# EAGLE library part 6180XX29321_61800929321 (library 618015233821_Eagle_WR-DSUB_rev20a)
WR-DSUB Female PCB Connector w. Hex Screw Kind Properties Quality Class：3 as per CECC 75 301-802 Gender:Female Type:Straight Insulator Material:PBT Insulator Flammability Rating:UL94 V-0 Color:White Contact Material:Copper Alloy Contact Plating:Gold Contact Type:Stamped Shielding Material:Steel Shielding Plating:Tin General Information Operating Temperature:-55 up to +105 °C Compliance：RoHS Electrical Properties IR 1：3 A Working Voltage:125 V (AC) Withstanding Voltage:1000 V (AC) Contact Resistance:30 mΩ <https://www.we-online.com/catalog/media/o33090v209%20Family_WR-DSUB_6180xx29321.jpg> Details see: https://www.we-online.com/catalog/en/DSUB_FEMALE_PCB_CONNECTOR_W_HEX_SCREW_6180XX29321/ Updated by Yingchun, Shan 2020-01-13 2020 (C) Würth Elektronik
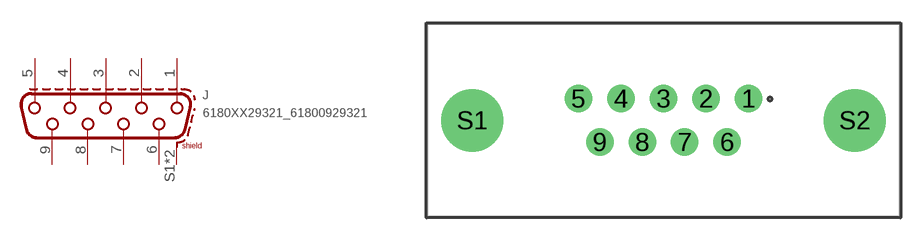
[diagram p50: symbol with the pads of 61800929321; footprint 61800929321]

Designator prefix J

## 6180XX29321_61800929321 (DATASHEET-URL: https://www.we-online.com/catalog/datasheet/61800929321.pdf; GENDER: Female; MATES-WITH: WR-DSUB 10.30 mm Male Angled PCB Connector w/o Hex Screw/8.08 mm Male Angled PCB Connector w/o Hex Screw /Female Terminal Housing/Male IDC/Male PCB Connector/Male Solder Bucket; PART-NUMBER: 61800929321; PINS: 9; TYPE: Straight; WE-NUMBER: 61800929321)  [61800929321]
1  1
2  2
3  3
4  4
5  5
6  6
7  7
8  8
9  9
S1  SHIELD
S2  SHIELD

## Footprint 61800929321 (pad centres in mm)
WR-DSUB Female PCB Connector w. Hex Screw, 9 Pins
drill 1.2: 1 5.57,1.42; 2 2.77,1.42; 3 0,1.42; 4 -2.77,1.42; 5 -5.57,1.42; 6 4.155,-1.42; 7 1.385,-1.42; 8 -1.385,-1.42; 9 -4.155,-1.42
drill 3.05: S1 -12.5,0; S2 12.5,0